# Altium footprint library 主控转接板-V1.0.PcbLib: 14 footprints
Each footprint in its own frame and in the unit in brackets; x right, y up, seen from the top. Pads: shape width x height; smd on the part's side, far side on the other; paste and mask are expansions set on the pad; w line width, h text height; cw(c..) or ccw(c..) is an arc to the next point about the centre after c.
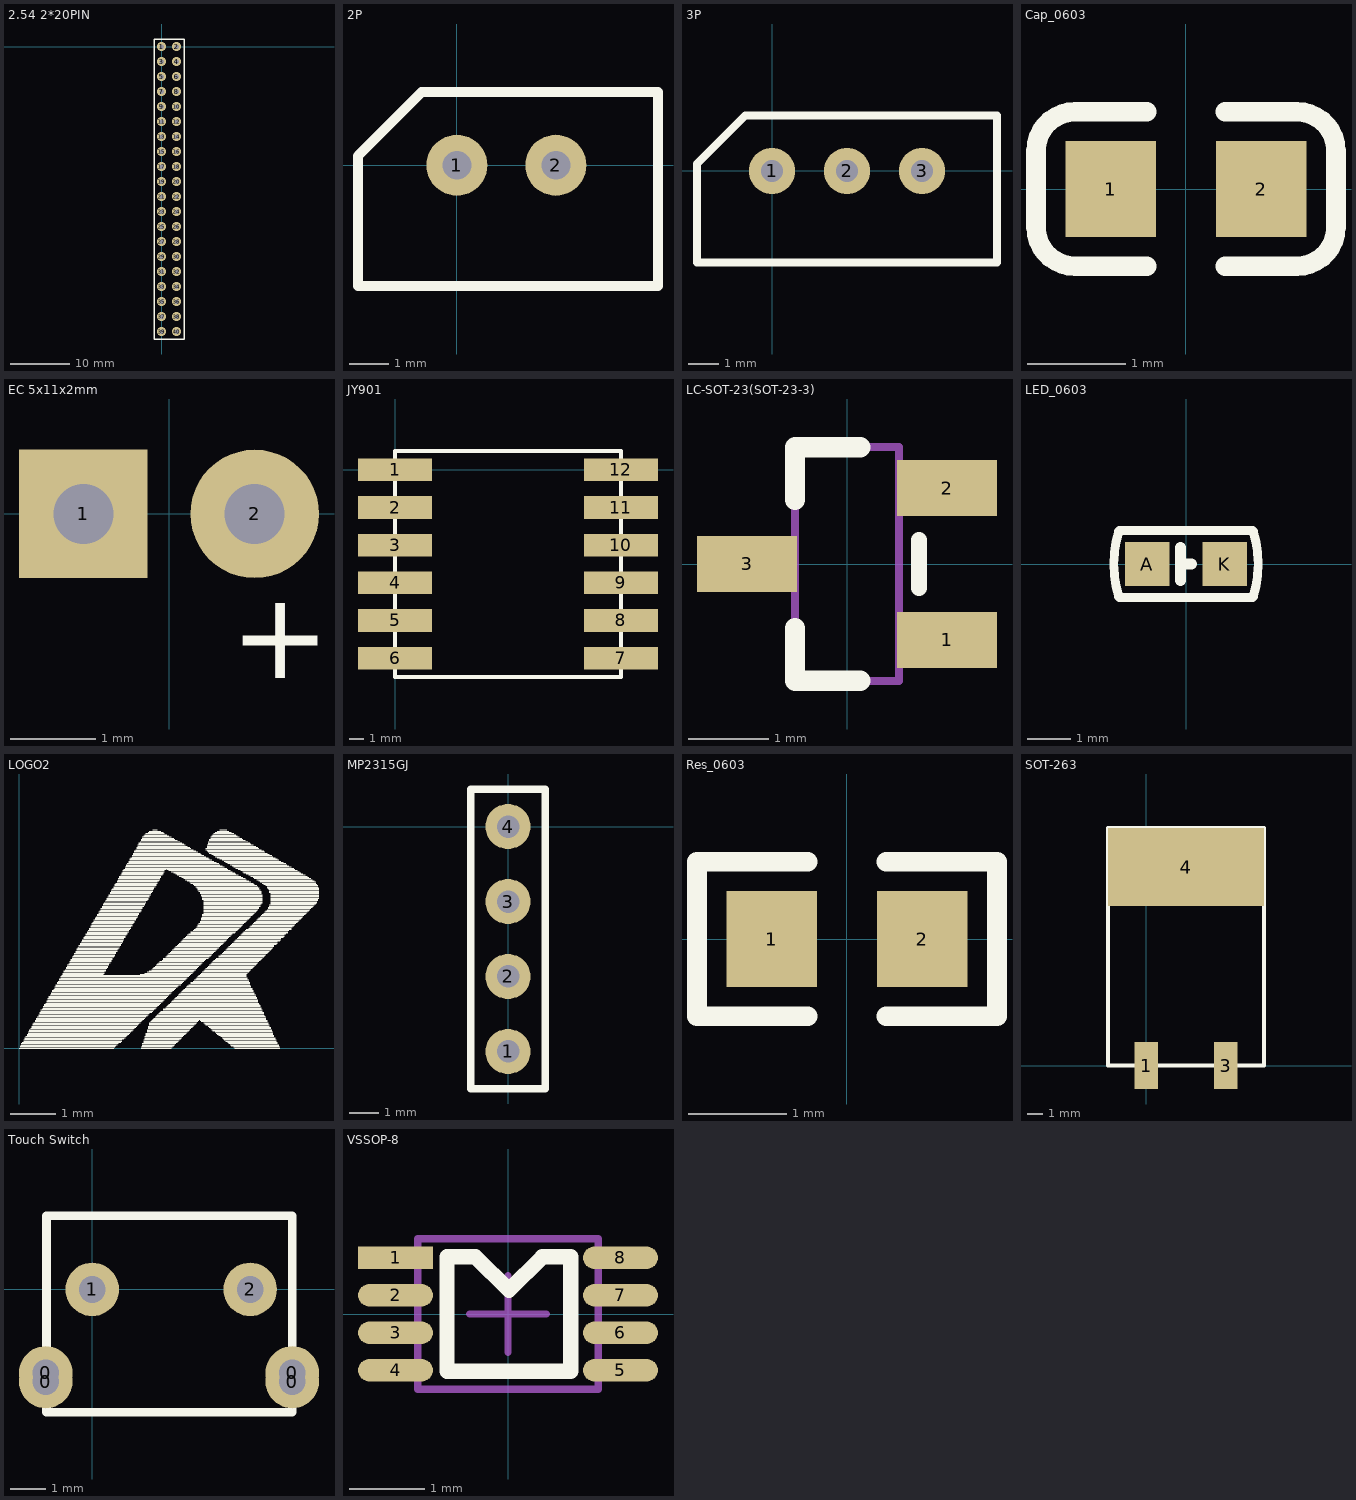
[diagram p0: the footprints below, top view; thin cyan lines are the x and y axes]

## 2.54 2*20PIN [mil]
pads (40):
  round 60 hole 30: 1(0,0) 2(100,0) 3(0,-100) 4(100,-100) 5(0,-200) 6(100,-200) 7(0,-300) 8(100,-300) 9(0,-400) 10(100,-400) 11(0,-500) 12(100,-500) 13(0,-600) 14(100,-600) 15(0,-700) 16(100,-700) 17(0,-800) 18(100,-800) 19(0,-900) 20(100,-900) 21(0,-1000) 22(100,-1000) 23(0,-1100) 24(100,-1100) 25(0,-1200) 26(100,-1200) 27(0,-1300) 28(100,-1300) 29(0,-1400) 30(100,-1400) 31(0,-1500) 32(100,-1500) 33(0,-1600) 34(100,-1600) 35(0,-1700) 36(100,-1700) 37(0,-1800) 38(100,-1800) 39(0,-1900) 40(100,-1900)
Top Overlay:
  lines w10: -50,-1950 -50,50 150,50 150,-1950 -50,-1950

## 2P [mm]
pads (2):
  round 1.542 hole 0.73: 1(0,0) 2(2.5,0)
Top Overlay:
  lines w0.254: -2.5,-3.05 -2.5,0.239 -0.889,1.85 5.08,1.85 5.08,-3.05 -2.5,-3.05

## 3P [mm]
pads (3):
  round 1.542 hole 0.73: 1(0,0) 2(2.5,0) 3(5,0)
Top Overlay:
  lines w0.254: -2.5,-3.05 7.5,-3.05 7.5,1.85 -0.889,1.85 -2.5,0.239 -2.5,-3.05

## Cap_0603 [mm]
pads (2):
  rect 0.93x0.98 smd: 1(-0.77,0) 2(0.77,0)
Top Overlay:
  lines w0.2: -0.4,-0.79 -1.135,-0.79 cw(c-1.135,-0.39) -1.535,-0.39 -1.535,0.39 cw(c-1.135,0.39) -1.135,0.79 -0.4,0.79 ; 0.4,-0.79 1.135,-0.79 ccw(c1.135,-0.39) 1.535,-0.39 1.535,0.39 ccw(c1.135,0.39) 1.135,0.79 0.4,0.79
3D body: height 0.3, standoff 0, extent -0.8,-0.4 0.8,0.4

## EC 5x11x2mm [mm]
height 11
pads (2):
  rect 1.5x1.5 hole 0.7: 1(-1,0)
  round 1.5 hole 0.7: 2(1,0)
Top Overlay:
  text "+" at 0.717,-1.919 h1.02

## JY901 [mil]
pads (12):
  rect 196.85x60 smd: 1(0,0) 2(0,-100) 3(0,-200) 4(0,-300) 5(0,-400) 6(0,-500) 7(600,-500) 8(600,-400) 9(600,-300) 10(600,-200) 11(600,-100) 12(600,0)
Top Overlay:
  lines w10: 0,-530 0,-550 600,-550 600,-530 ; 0,-470 0,-430 ; 0,-370 0,-330 ; 0,-270 0,-230 ; 0,-170 0,-130 ; 0,-70 0,-30 ; 0,30 0,50 600,50 600,30 ; 600,-470 600,-430 ; 600,-370 600,-330 ; 600,-270 600,-230 ; 600,-170 600,-130 ; 600,-70 600,-30

## LC-SOT-23(SOT-23-3) [mm]
pads (3):
  rect 1.25x0.7 smd: 1(1.25,-0.95) 2(1.25,0.95) 3(-1.25,0)
Top Overlay:
  lines w0.2: 0.9,-0.3 0.9,0.3
  lines w0.254: -0.65,-0.8 -0.65,-1.46 0.165,-1.46 ; 0.165,1.46 -0.65,1.46 ; -0.65,0.8 -0.65,1.46 ; -0.65,0.8 -0.65,1.46 ; -0.65,0.8 -0.65,1.46
Mechanical 13:
  lines w0.1: -0.65,-1.46 -0.65,1.46 ; -0.65,-1.46 0.65,-1.46 ; -0.65,-1.46 -0.65,1.46 ; -0.65,-1.46 0.65,-1.46 ; -0.65,-1.46 0.65,-1.46 ; -0.65,-1.46 -0.65,1.46 ; -0.65,1.46 0.65,1.46 ; -0.65,1.46 0.65,1.46 ; -0.65,1.46 0.65,1.46 ; 0.65,-1.46 0.65,1.46 ; 0.65,-1.46 0.65,1.46 ; 0.65,-1.46 0.65,1.46
3D body: height 1.3, standoff 0, extent -1.5,-1.5 1.5,1.5

## LED_0603 [mil]
pads (2):
  rect 40x40 smd: A(-35,0) K(35,0)
Top Overlay:
  lines w8: -60.63,-29.24 cw(c35,0) -60.63,29.24 ; -60,-30 60,-30 ; -60,30 60,30 ; 60.63,-29.24 ccw(c-35,0) 60.63,29.24
  lines w10: -5,-15 -5,15 ; -5,0 5,0
3D body: height 23.62, standoff 0, extent -31.89,-15.75 31.89,15.75

## LOGO2 [mil]
height 433.07
Top Overlay:
  drawing of 497 lines, arcs and shapes, not listed

## MP2315GJ [mil]
pads (4):
  round 60 hole 30: 1(0,-300) 2(0,-200) 3(0,-100) 4(0,0)
Top Overlay:
  lines w10: -50,-350 50,-350 50,50 -50,50 -50,-350

## Res_0603 [mm]
pads (2):
  rect 0.93x0.98 smd: 1(-0.77,0) 2(0.77,0)
Top Overlay:
  lines w0.2: -0.4,-0.79 -1.535,-0.79 -1.535,0.79 -0.4,0.79 ; 0.4,-0.79 1.535,-0.79 1.535,0.79 0.4,0.79
3D body: height 0.56, standoff 0, extent -0.85,-0.4 0.85,0.4

## SOT-263 [mm]
pads (3):
  rect 1.5x3 smd: 1(0,0) 3(5.08,0)
  rect 10x5 smd: 4(2.54,12.7)
Top Overlay:
  lines w0.254: -2.46,0 -2.46,15.2 7.54,15.2 7.54,0 -2.46,0

## Touch Switch [mil]
pads (6):
  round 60 hole 30: 0(-52.17,-103.35) 0(-52.17,-93.5) 0(224.41,-103.35) 0(224.41,-93.5) 1(0,0) 2(177.17,0)
Top Overlay:
  lines w10: -51.18,-137.8 88.58,-137.8 224.41,-137.8 224.41,82.68 -51.18,82.68 -51.18,-137.8

## VSSOP-8 [mm]
height 1.1
pads (8):
  rect 1x0.3 smd: 1(-1.5,0.75)
  oval 1x0.3 smd: 2(-1.5,0.25) 3(-1.5,-0.25) 4(-1.5,-0.75) 5(1.5,-0.75) 6(1.5,-0.25) 7(1.5,0.25) 8(1.5,0.75)
Top Overlay:
  lines w0.203: -0.813,-0.762 -0.813,0.762 -0.432,0.762 0.013,0.318 0.457,0.762 0.838,0.762 0.838,-0.762 -0.813,-0.762
Mechanical 13:
  lines w0.1: -1.2,-1 1.2,-1 1.2,1 -1.2,1 -1.2,-1
Mechanical 15:
  lines w0.1: -0.508,0 0.508,0 ; 0,-0.508 0,0.508
3D body: height 0.9, standoff 0, extent -1.6,-1.041 1.6,1.059